# Altium footprint library TRIAC.PcbLib: 5 footprints
Each footprint in its own frame and in the unit in brackets; x right, y up, seen from the top. Pads: shape width x height; smd on the part's side, far side on the other; paste and mask are expansions set on the pad; w line width, h text height; cw(c..) or ccw(c..) is an arc to the next point about the centre after c.
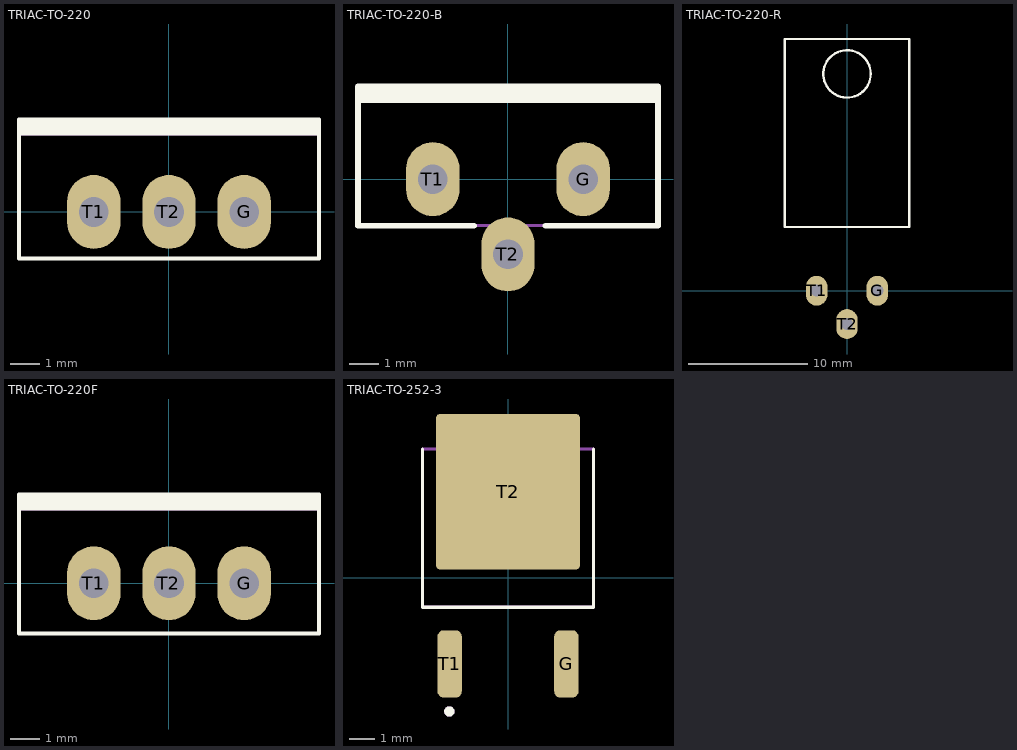
[diagram p0: the footprints below, top view; thin cyan lines are the x and y axes]

## TRIAC-TO-220 [mm]
pads (3):
  oval 1.8x2.5 hole 1 mask+0.075: G(2.54,0) T1(-2.54,0) T2(0,0)
Top Overlay:
  region: 5.071,3.127 -5.07,3.127 -5.07,2.591 5.071,2.591
  lines w0.12: -5.07,-1.573 -5.07,3.127 5.071,3.127 5.071,-1.573 -5.07,-1.573
Mechanical 13:
  rectangle: -5.07,2.583 5.071,3.127
  lines w0.1: -5.07,-1.573 -5.07,3.127 5.071,3.127 5.071,-1.573 -5.07,-1.573
3D body "TO-220_factory.stp": height 20, standoff -9, extent -5.25,-1.602 5.25,3.048

## TRIAC-TO-220-B [mm]
pads (3):
  oval 1.8x2.5 hole 1 mask+0.075: G(2.54,0) T1(-2.54,0) T2(0,-2.54)
Top Overlay:
  region: 5.071,2.791 -5.07,2.791 -5.07,2.591 5.071,2.591
  region: -5.07,3.127 -5.07,2.591 5.071,2.591 5.071,3.127
  lines w0.2: -1.143,-1.573 -5.07,-1.573 -5.07,3.127 5.071,3.127 5.071,-1.573 1.27,-1.573
Mechanical 13:
  rectangle: -5.07,2.583 5.071,3.127
  lines w0.1: -5.07,-1.573 -5.07,3.127 5.071,3.127 5.071,-1.573 -5.07,-1.573
3D body "TO-220-Vert.STEP": height 22.8, standoff -5.98, extent -4.95,-2.832 4.95,2.413

## TRIAC-TO-220-R [mm]
pads (3):
  oval 1.8x2.5 hole 1 mask+0.075: G(2.54,0) T1(-2.54,0) T2(0,-2.794)
Top Overlay:
  circle w0.2: c0,18.161 r1.984
  lines w0.2: -5.207,5.334 5.207,5.334 5.207,21.082 -5.207,21.082 -5.207,5.334
3D body "TO-220.stp": height 4.46, standoff -2.8, extent -5.051,-2.794 5.051,20.975

## TRIAC-TO-220F [mm]
pads (3):
  oval 1.8x2.5 hole 1 mask+0.075: G(2.54,0) T1(-2.54,0) T2(0,0)
Top Overlay:
  region: 5.071,3 -5.07,3 -5.07,2.464 5.071,2.464
  lines w0.12: -5.07,-1.7 -5.07,3 5.071,3 5.071,-1.7 -5.07,-1.7
Mechanical 13:
  rectangle: -5.07,2.456 5.071,3
  lines w0.1: -5.07,-1.7 -5.07,3 5.071,3 5.071,-1.7 -5.07,-1.7
3D body "TO-220F Full Pack.step": height 19.07, standoff -10.3, extent -5.07,-1.7 5.071,3

## TRIAC-TO-252-3 [mm]
pads (3):
  rrect50% 0.95x2.64 smd: G(2.286,-3.375) T1(-2.286,-3.375)
  rrect5% 5.63x6.09 smd paste-4: T2(0,3.375)
Top Overlay:
  circle w0.2: c-2.3,-5.235 r0.1
  lines w0.127: -3.35,5.05 -3.35,-1.15 3.35,-1.15 3.35,5.05
Top Paste:
  region: 2.535,2.645 1.225,2.645 1.225,4.105 2.535,4.105
  region: 2.535,4.675 1.225,4.675 1.225,6.135 2.535,6.135
  region: 2.535,0.615 1.225,0.615 1.225,2.075 2.535,2.075
  region: -1.225,0.615 -2.535,0.615 -2.535,2.075 -1.225,2.075
  region: -1.225,2.645 -2.535,2.645 -2.535,4.105 -1.225,4.105
  region: -1.225,4.675 -2.535,4.675 -2.535,6.135 -1.225,6.135
  region: 0.655,0.615 -0.655,0.615 -0.655,2.075 0.655,2.075
  region: 0.655,4.675 -0.655,4.675 -0.655,6.135 0.655,6.135
  region: 0.655,2.645 -0.655,2.645 -0.655,4.105 0.655,4.105
Mechanical 13:
  circle w0.2: c-2.3,-5.235 r0.1
  lines w0.127: -3.35,-1.15 -3.35,5.05 3.35,5.05 3.35,-1.15 -3.35,-1.15
3D body "TO-252AA-IRF.stp": height 2.39, standoff 0, extent -3.356,-4.215 3.356,6.199